# EAGLE library part PROSTAR (library 000001)
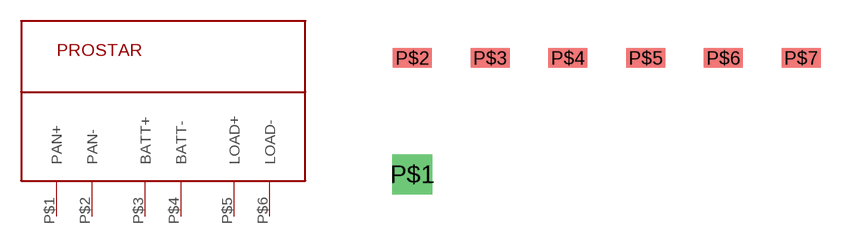
[diagram p62: symbol with the pads of PROSTAR; footprint PROSTAR]

Designator prefix -

## PROSTAR  [PROSTAR]
P$1  PAN+
P$2  PAN-
P$3  BATT+
P$4  BATT-
P$5  LOAD+
P$6  LOAD-

## Footprint PROSTAR (pad centres in mm)
drill 0.8 square: P$1 -10.16,1.27
smd 1.27 x 0.635: P$2 -10.16,5.08; P$3 -7.62,5.08; P$4 -5.08,5.08; P$5 -2.54,5.08; P$6 0,5.08; P$7 2.54,5.08